# Altium schematic symbol library vfd.SchLib: 4 symbols
Pins are listed as number, name and electrical type; pins without a type are passive.

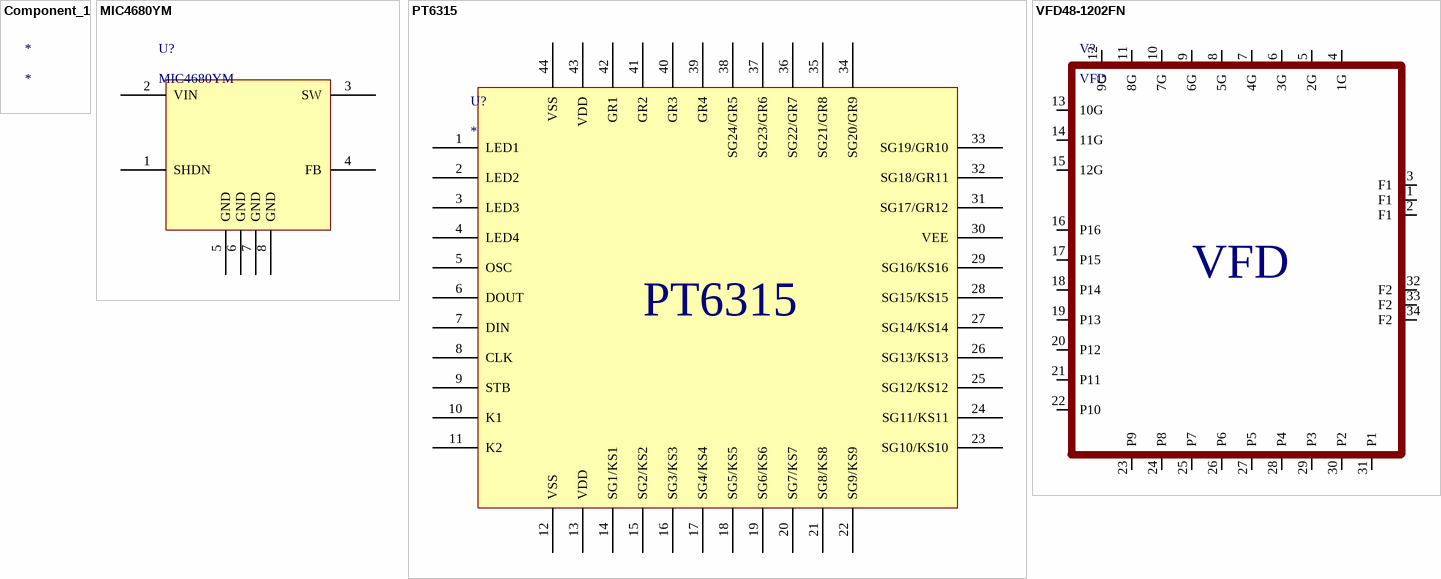
[diagram p0: symbols Component_1 to VFD48-1202FN]

## Component_1
designator *

## MIC4680YM
designator U?
footprint SOIC8_N (Footprint not found)
pins: 1 SHDN, 2 VIN, 3 SW, 4 FB, 5 GND, 6 GND, 7 GND, 8 GND

## PT6315
designator U?
footprint LQFP44_10X10X08P
pins: 1 LED1, 2 LED2, 3 LED3, 4 LED4, 5 OSC, 6 DOUT, 7 DIN, 8 CLK, 9 STB, 10 K1, 11 K2, 12 VSS, 13 VDD, 14 SG1/KS1, 15 SG2/KS2, 16 SG3/KS3, 17 SG4/KS4, 18 SG5/KS5, 19 SG6/KS6, 20 SG7/KS7, 21 SG8/KS8, 22 SG9/KS9, 23 SG10/KS10, 24 SG11/KS11, 25 SG12/KS12, 26 SG13/KS13, 27 SG14/KS14, 28 SG15/KS15, 29 SG16/KS16, 30 VEE, 31 SG17/GR12, 32 SG18/GR11, 33 SG19/GR10, 34 SG20/GR9, 35 SG21/GR8, 36 SG22/GR7, 37 SG23/GR6, 38 SG24/GR5, 39 GR4, 40 GR3, 41 GR2, 42 GR1, 43 VDD, 44 VSS

## VFD48-1202FN
designator V?, comment VFD
VFD48-1202FN
footprint VFD48-1202FN
pins: 1 F1, 2 F1, 3 F1, 4 1G, 5 2G, 6 3G, 7 4G, 8 5G, 9 6G, 10 7G, 11 8G, 12 9G, 13 10G, 14 11G, 15 12G, 16 P16, 17 P15, 18 P14, 19 P13, 20 P12, 21 P11, 22 P10, 23 P9, 24 P8, 25 P7, 26 P6, 27 P5, 28 P4, 29 P3, 30 P2, 31 P1, 32 F2, 33 F2, 34 F2